# Altium schematic symbol library Connectors.SchLib: 80 symbols
Pins are listed as number, name and electrical type; pins without a type are passive.

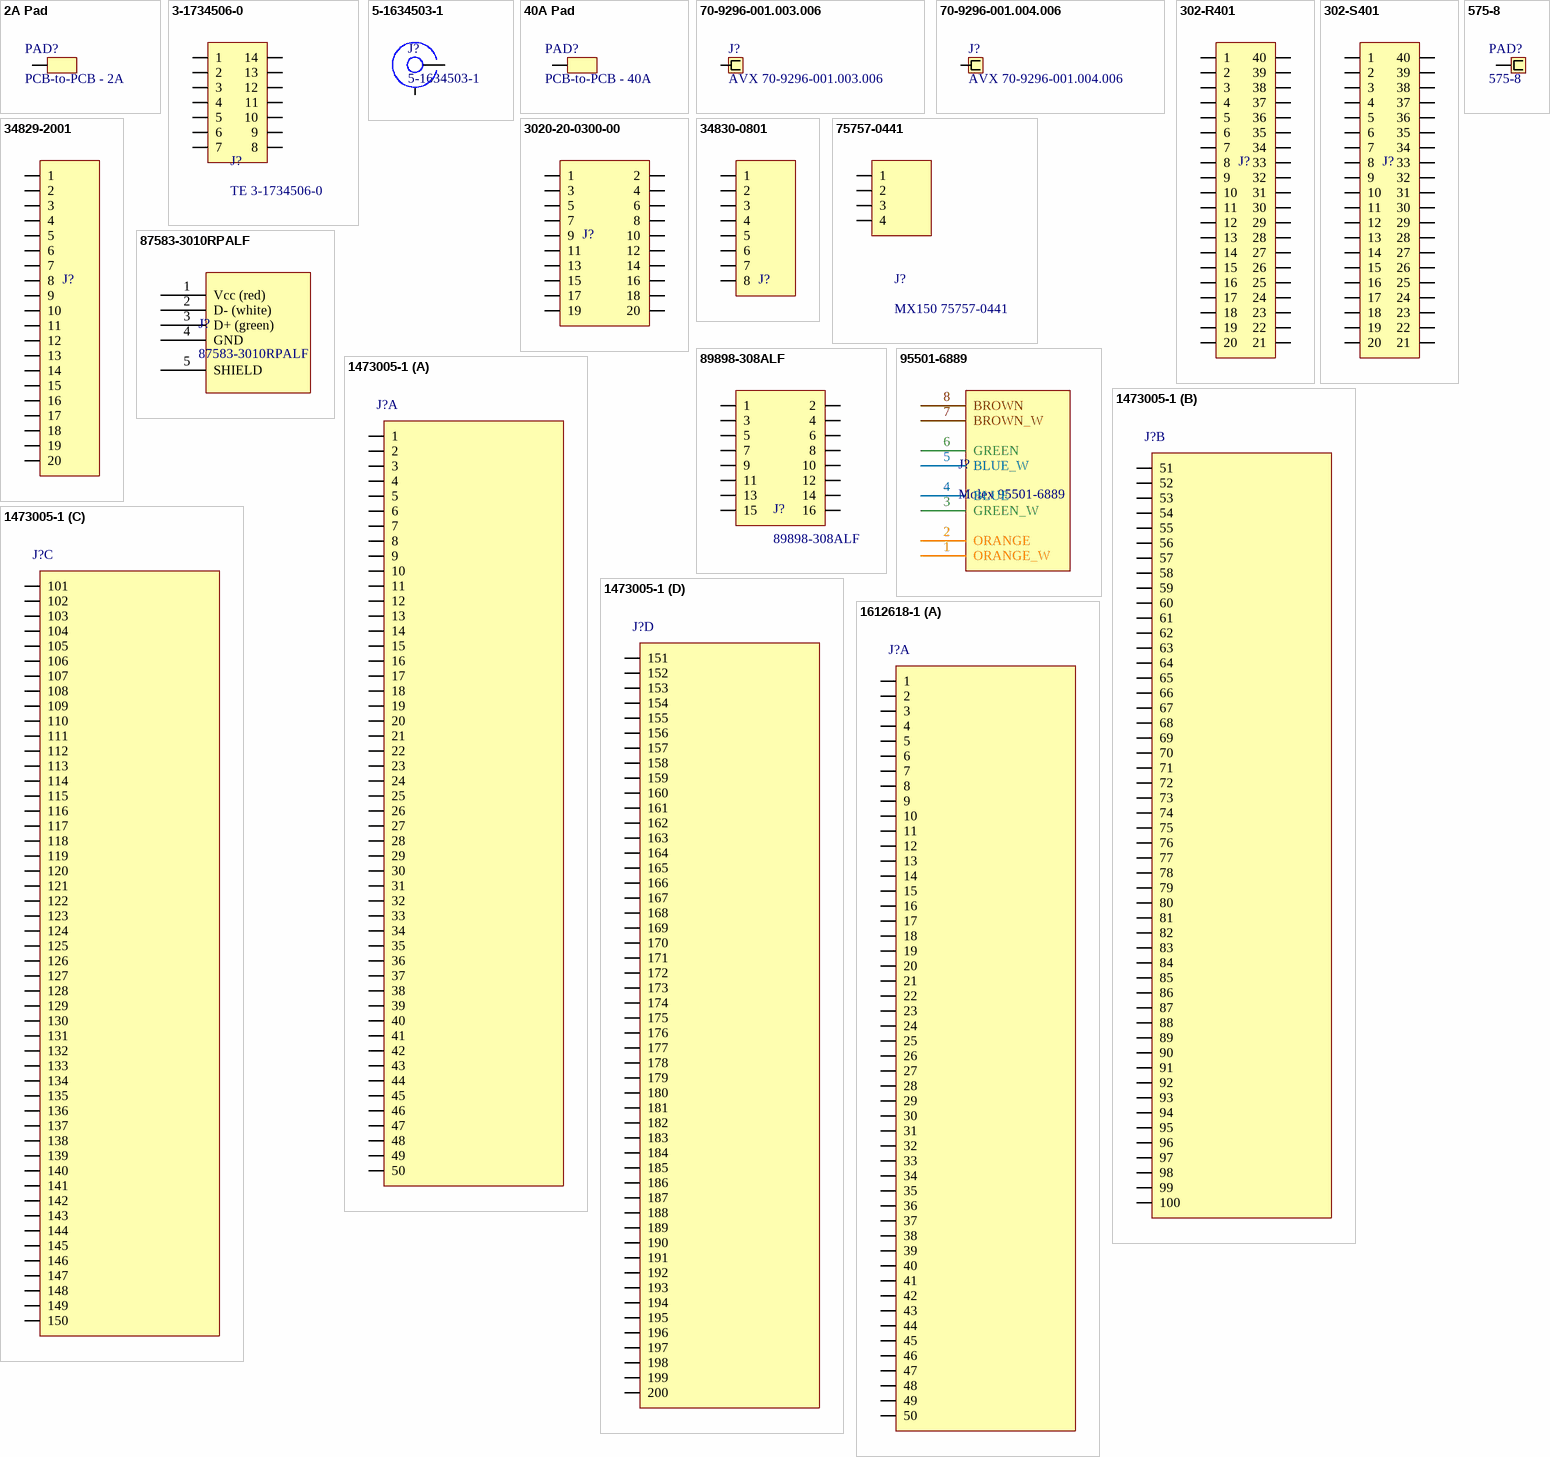
[diagram p0: symbols 2A Pad to 1612618-1]

## 2A Pad
designator PAD?, comment PCB-to-PCB - 2A  (no BOM)
Bare pad for soldering two PCBs together. Sized for 2A.
footprint 2A Pad (Spring Contact Land)
pins: 1

## 3-1734506-0
designator J?, comment TE 3-1734506-0
14-pin (2x7) FEMALE 2mm pitch header; Supplier 1: Digi-Key; Supplier Part Number 1: A108125-ND
footprint TE 3-1734506-0 (14-pin female header, 2mm pitch)
pins: 1, 2, 3, 4, 5, 6, 7, 8, 9, 10, 11, 12, 13, 14

## 5-1634503-1
designator J?
BNC Connector Jack, Female Socket 50 Ohm; Supplier 1: Digi-Key; Supplier Part Number 1: A97581-ND
footprint 1634503 (BNC Straight -- low profile PCB Socket)
pins: 1 +, 2 -

## 40A Pad
designator PAD?, comment PCB-to-PCB - 40A  (no BOM)
Bare pad for soldering two PCBs together. Sized for 40A.
footprint 40A Pad (Spring Contact Land)
pins: 1

## 70-9296-001.003.006
designator J?, comment AVX 70-9296-001.003.006
18-26 AWG Poke-In Connector, SMT Right Angle, 12A/300V; Supplier 1: Arrow; Supplier Part Number 1: 4UqPmsK6ymT0yHi-ZWwqiyie42LY-fYd7lKV5dq7NIE; Supplier 2: Digi-Key; Supplier Part Number 2: 478-8744-1-ND
footprint 70-9296-001.003.006
pins: 1

## 70-9296-001.004.006
designator J?, comment AVX 70-9296-001.004.006
12-20 AWG Poke-In Connector, SMT Right Angle, 20A/300V; Supplier Part Number 1: 7-I2iwPeJgIE7biQH_x3lbg6mfNoXfaR7hMX_bwNfOM; Supplier 2: Digi-Key; Supplier Part Number 2: 478-8665-1-ND; Supplier 1: Arrow
footprint 70-9296-001.004.006
pins: 1

## 302-R401
designator J?  (value not drawn)
40-pin (2x20) male 0.100" header, right angle; Supplier 1: Digi-Key; Supplier Part Number 1: ED10541-ND
footprint 302-R401
pins: 1, 2, 3, 4, 5, 6, 7, 8, 9, 10, 11, 12, 13, 14, 15, 16, 17, 18, 19, 20, 21, 22, 23, 24, 25, 26, 27, 28, 29, 30, 31, 32, 33, 34, 35, 36, 37, 38, 39, 40

## 302-S401
designator J?  (value not drawn)
40-pin (2x20) male 0.100" header
footprint 302-S401
pins: 1, 2, 3, 4, 5, 6, 7, 8, 9, 10, 11, 12, 13, 14, 15, 16, 17, 18, 19, 20, 21, 22, 23, 24, 25, 26, 27, 28, 29, 30, 31, 32, 33, 34, 35, 36, 37, 38, 39, 40

## 575-8
designator PAD?
15A Female banana jack, 4mm; Supplier 1: Digi-Key; Supplier Part Number 1: 36-575-8-ND
footprint 575-8
pins: 1

## 3020-20-0300-00
designator J?  (value not drawn)
20 Positions Header Connector 0.100" (2.54mm) Surface Mount Gold; Supplier 1: Digi-Key; Supplier Part Number 1: 1175-1623-ND
footprint 3020-20-0300-00 (20 Positions Header Connector 0.100" (2.54mm) Surface Mount Gold)
pins: 1, 2, 3, 4, 5, 6, 7, 8, 9, 10, 11, 12, 13, 14, 15, 16, 17, 18, 19, 20

## 34829-2001
designator J?  (value not drawn)
20-pin (2x10) press-fit MX150 connector, polarization A (black); Supplier 1: Mouser; Supplier Part Number 1: 538-34829-2001; Supplier 2: Newark; Supplier Part Number 2: 20X4410; Supplier 3: Digi-Key; Supplier Part Number 3: 0348292001-ND
footprint 34829-2001 (MX150™ 2x10 Dual Row Right Angle Header, Compliant Pin, 20 Circuits, Polarization A, Black)
pins: 1, 2, 3, 4, 5, 6, 7, 8, 9, 10, 11, 12, 13, 14, 15, 16, 17, 18, 19, 20

## 34830-0801
designator J?  (value not drawn)
8-pin (2x4) solder-tail MX150 connector, polarization A (black); Supplier 1: Digi-Key; Supplier Part Number 1: WM14555-ND
footprint 34830-0801 (MX150™ 2x4 Dual Row Right Angle Header, Solder Pin, 8 Circuits, Polarization A, Black)
pins: 1, 2, 3, 4, 5, 6, 7, 8

## 75757-0441
designator J?, comment MX150 75757-0441
MX150 Connector Header Through Hole 4 position 0.138" (3.50mm); Supplier 1: Digi-Key; Supplier Part Number 1: WM12840-ND
footprint 75757-0441 (MX150 Connector Header Through Hole 4 position 0.138" (3.50mm))
pins: 1, 2, 3, 4

## 87583-3010RPALF
designator J?
USB - A USB 2.0 Receptacle Connector 4 Position Surface Mount, Right Angle
footprint 87583-3010RPALF
pins: 1 Vcc (red), 2 D- (white), 3 D+ (green), 4 GND, 5 SHIELD

## 89898-308ALF
designator J?
16-pin (2x8) FEMALE 2.54mm pitch header; Supplier 1: Digi-Key; Supplier 2: Mouser; Supplier Part Number 1: 609-5158-1-ND; Supplier Part Number 2: 649-89898-308ALF
footprint 89898-308ALF (16 Position Receptacle, Bottom or Top Entry Connector Surface Mount)
pins: 1, 2, 3, 4, 5, 6, 7, 8, 9, 10, 11, 12, 13, 14, 15, 16

## 95501-6889
designator J?, comment Molex 95501-6889
Jack Modular Connector 8p8c (RJ45, Ethernet) 90° Angle (Right) Unshielded Cat3; Supplier 1: Digi-Key; Supplier 2: Mouser; Supplier Part Number 1: WM5576-ND; Supplier Part Number 2: 538-95501-6889
footprint Molex 95501-6889
pins: 1 ORANGE_W, 2 ORANGE, 3 GREEN_W, 4 BLUE, 5 BLUE_W, 6 GREEN, 7 BROWN_W, 8 BROWN

## 1473005-1
designator J?, comment TE 1473005-1  (value not drawn)
SODIMM DDR2 200-pin standard, 5.2mm high; Supplier 1: Mouser; Supplier Part Number 1: 571-1473005-1; Supplier 2: Digi-Key; Supplier Part Number 2: A99605-ND
footprint TE 1473005-1
part A pins: 1, 2, 3, 4, 5, 6, 7, 8, 9, 10, 11, 12, 13, 14, 15, 16, 17, 18, 19, 20, 21, 22, 23, 24, 25, 26, 27, 28, 29, 30, 31, 32, 33, 34, 35, 36, 37, 38, 39, 40, 41, 42, 43, 44, 45, 46, 47, 48, 49, 50
part B pins: 51, 52, 53, 54, 55, 56, 57, 58, 59, 60, 61, 62, 63, 64, 65, 66, 67, 68, 69, 70, 71, 72, 73, 74, 75, 76, 77, 78, 79, 80, 81, 82, 83, 84, 85, 86, 87, 88, 89, 90, 91, 92, 93, 94, 95, 96, 97, 98, 99, 100
part C pins: 101, 102, 103, 104, 105, 106, 107, 108, 109, 110, 111, 112, 113, 114, 115, 116, 117, 118, 119, 120, 121, 122, 123, 124, 125, 126, 127, 128, 129, 130, 131, 132, 133, 134, 135, 136, 137, 138, 139, 140, 141, 142, 143, 144, 145, 146, 147, 148, 149, 150
part D pins: 151, 152, 153, 154, 155, 156, 157, 158, 159, 160, 161, 162, 163, 164, 165, 166, 167, 168, 169, 170, 171, 172, 173, 174, 175, 176, 177, 178, 179, 180, 181, 182, 183, 184, 185, 186, 187, 188, 189, 190, 191, 192, 193, 194, 195, 196, 197, 198, 199, 200

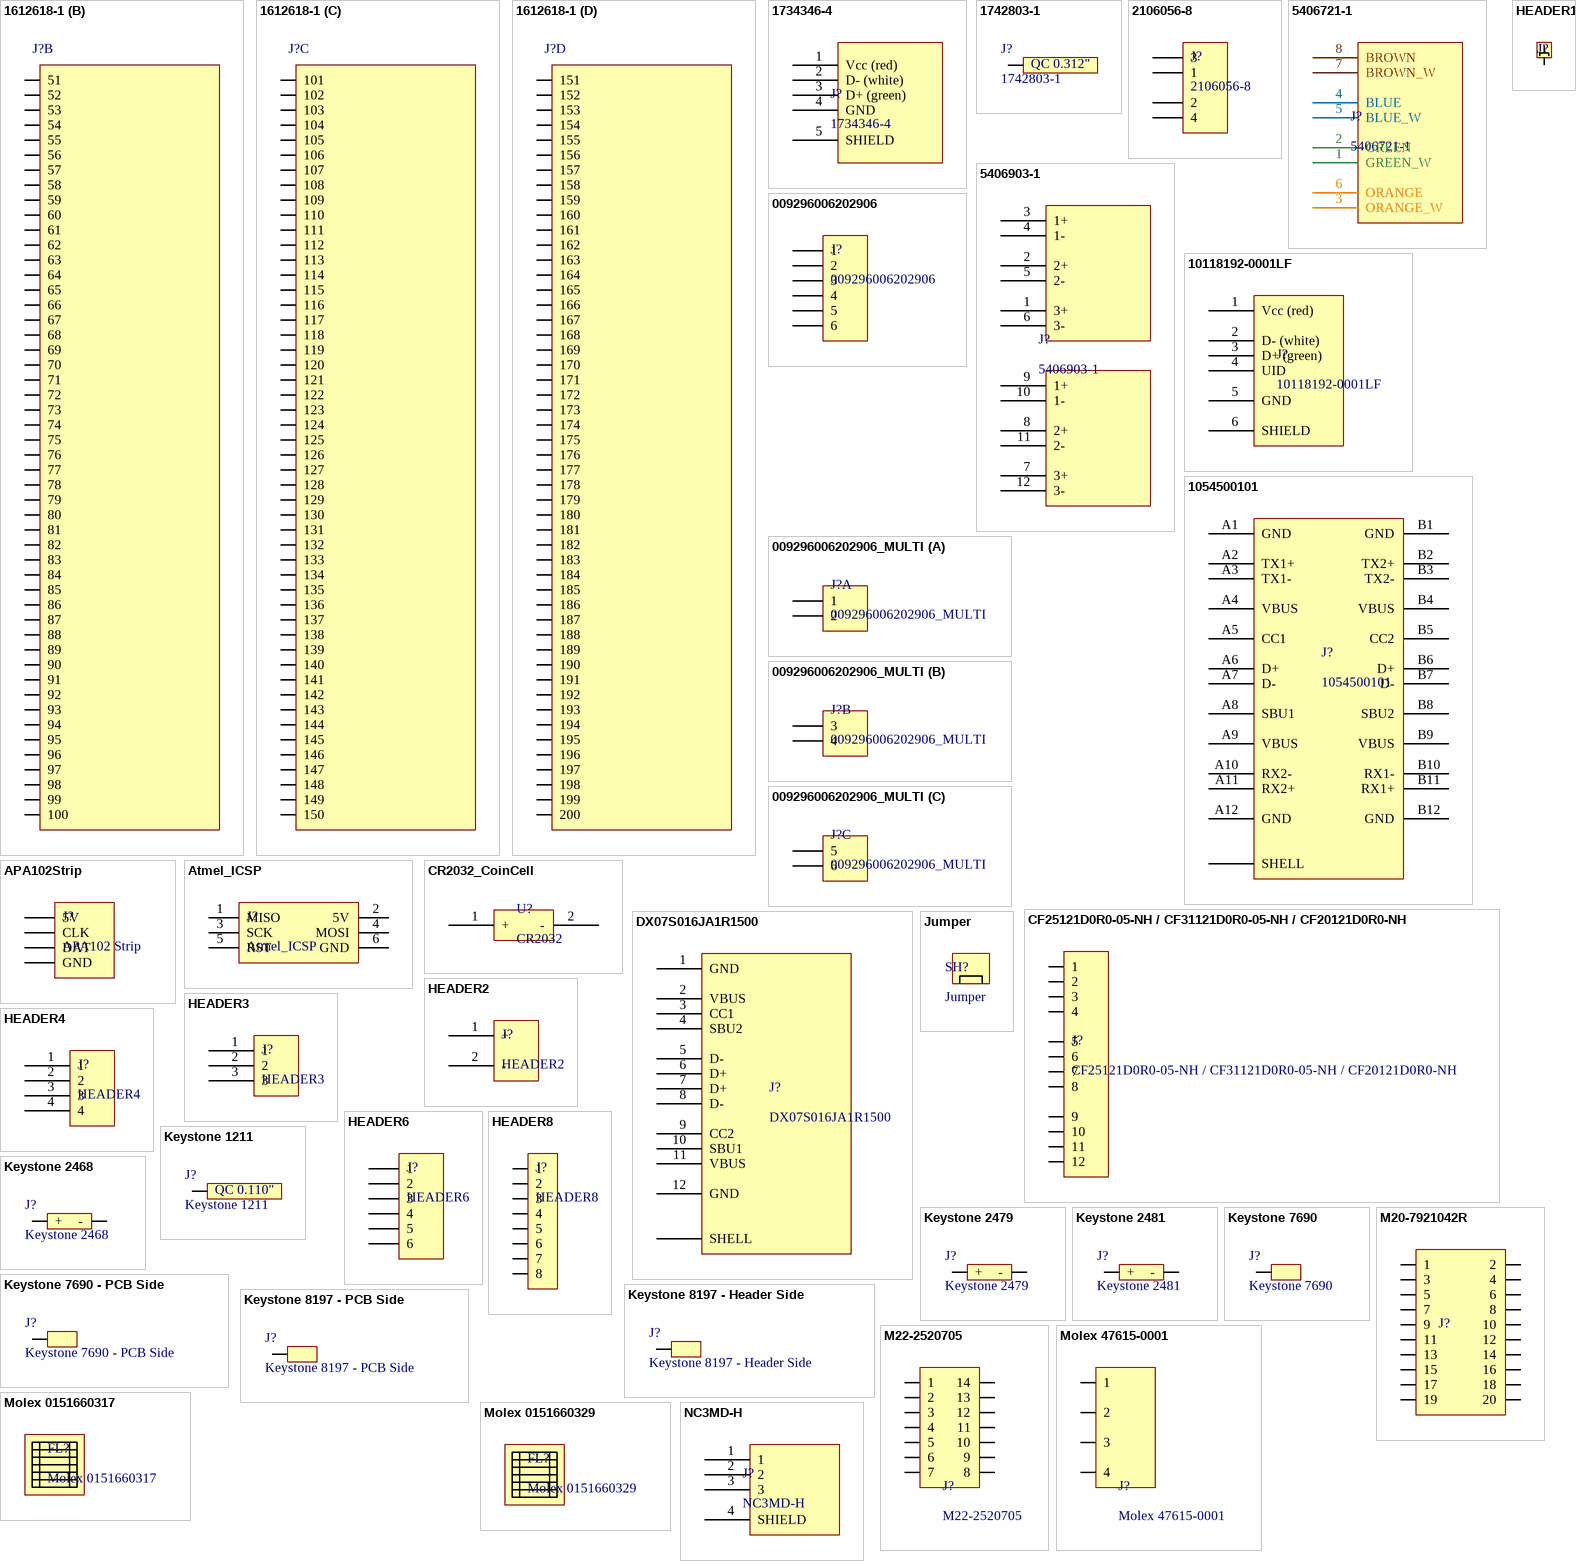
[diagram p1: symbols 1612618-1 to NC3MD-H]

## 1612618-1
designator J?, comment TE 1612618-1  (value not drawn)
SODIMM DDR2 200-pin standard, 9.2mm high; Supplier 1: Mouser; Supplier Part Number 1: 571-1612618-1; Supplier 2: Digi-Key; Supplier Part Number 2: A121569-ND
footprint TE 1612618-1
part A pins: 1, 2, 3, 4, 5, 6, 7, 8, 9, 10, 11, 12, 13, 14, 15, 16, 17, 18, 19, 20, 21, 22, 23, 24, 25, 26, 27, 28, 29, 30, 31, 32, 33, 34, 35, 36, 37, 38, 39, 40, 41, 42, 43, 44, 45, 46, 47, 48, 49, 50
part B pins: 51, 52, 53, 54, 55, 56, 57, 58, 59, 60, 61, 62, 63, 64, 65, 66, 67, 68, 69, 70, 71, 72, 73, 74, 75, 76, 77, 78, 79, 80, 81, 82, 83, 84, 85, 86, 87, 88, 89, 90, 91, 92, 93, 94, 95, 96, 97, 98, 99, 100
part C pins: 101, 102, 103, 104, 105, 106, 107, 108, 109, 110, 111, 112, 113, 114, 115, 116, 117, 118, 119, 120, 121, 122, 123, 124, 125, 126, 127, 128, 129, 130, 131, 132, 133, 134, 135, 136, 137, 138, 139, 140, 141, 142, 143, 144, 145, 146, 147, 148, 149, 150
part D pins: 151, 152, 153, 154, 155, 156, 157, 158, 159, 160, 161, 162, 163, 164, 165, 166, 167, 168, 169, 170, 171, 172, 173, 174, 175, 176, 177, 178, 179, 180, 181, 182, 183, 184, 185, 186, 187, 188, 189, 190, 191, 192, 193, 194, 195, 196, 197, 198, 199, 200

## 1734346-4
designator J?
USB - B USB 2.0 Receptacle Connector 4 Position Surface Mount, Right Angle; Supplier 1: Digi-Key; Supplier 2: Mouser; Supplier 3: Arrow; Supplier Part Number 1: A114945-ND; Supplier Part Number 2: 571-1734346-1; Supplier Part Number 3: 1734346-1
footprint 1734346-4
pins: 1 Vcc (red), 2 D- (white), 3 D+ (green), 4 GND, 5 SHIELD

## 1742803-1
designator J?
312 FAST PCB TAB 032TPBR
footprint 1742803-1 (QC, laying flat)
pins: 1
text: QC 0.312"

## 2106056-8
designator J?
TE 4-pin SlimSeal Sealed Connector Header, right angle SMT; Supplier 1: Digi-Key; Supplier Part Number 1: A101040CT-ND
footprint 2106056-8 (SlimSeal 4-pin right angle header, SMT)
pins: 1, 2, 3, 4

## 5406721-1
designator J?
CONN JACK 8P8C R/A UNSHLD
footprint 5406721-1
pins: 1 GREEN_W, 2 GREEN, 3 ORANGE_W, 4 BLUE, 5 BLUE_W, 6 ORANGE, 7 BROWN_W, 8 BROWN

## 5406903-1
designator J?
CONN JACK 2x 6P6C R/A UNSHLD
footprint 5406903-1
pins: 1 3+, 2 2+, 3 1+, 4 1-, 5 2-, 6 3-, 7 3+, 8 2+, 9 1+, 10 1-, 11 2-, 12 3-

## 10118192-0001LF
designator J?
CONN RCPT USB2.0 MICRO B SMD R/A
footprint 10118192-0001LF
pins: 1 Vcc (red), 2 D- (white), 3 D+ (green), 4 UID, 5 GND, 6 SHIELD

## 1054500101
designator J?
USB - C (Type - C) USB 3.1 (USB 3.1 Gen 2, Superspeed+) Receptacle Connector 24 Position Surface Mount, Right Angle; Through Hole; Supplier 1: Digi-Key; Supplier 2: Arrow; Supplier Part Number 2: 105450-0101; Supplier Part Number 1: WM12856CT-ND
footprint 1054500101 (CONN RCP USB3.1 TYPEC 24P SMD RA)
pins: A1 GND, A2 TX1+, A3 TX1-, A4 VBUS, A5 CC1, A6 D+, A7 D-, A8 SBU1, A9 VBUS, A10 RX2-, A11 RX2+, A12 GND, B1 GND, B2 TX2+, B3 TX2-, B4 VBUS, B5 CC2, B6 D+, B7 D-, B8 SBU2, B9 VBUS, B10 RX1-, B11 RX1+, B12 GND, SHELL

## 009296006202906
designator J?
AVX 6-pin poke-in header; Supplier 1: Mouser; Supplier Part Number 1: 581-009296006202906; Supplier 2: Digi-Key; Supplier Part Number 2: 478-9537-1-ND
footprint 009296006202906
pins: 1, 2, 3, 4, 5, 6

## 009296006202906_MULTI
designator J?
AVX 6-pin poke-in header, split into 3 blocks of 2.; Supplier 1: Mouser; Supplier Part Number 1: 581-009296006202906; Supplier 2: Digi-Key; Supplier Part Number 2: 478-9537-1-ND
footprint 009296006202906
part A pins: 1, 2
part B pins: 3, 4
part C pins: 5, 6

## APA102Strip
designator J?, comment APA102 Strip
APA102 strip mount, standard header, strip and wire compatible.; Supplier 1: Digi-Key; Supplier Part Number 1: S1011EC-06-ND; Supplier 2: Mouser; Supplier Part Number 2: 855-M20-9730645; Supplier 3: Digi-Key; Supplier Part Number 3: 952-1984-ND
footprint APA102Strip
pins: 1 5V, 2 CLK, 3 DAT, 4 GND

## Atmel_ICSP
designator J?
6-pin 0.100" ICSP header; Supplier 1: Digi-Key; Supplier Part Number 1: S2012EC-03-ND
footprint 6x2
pins: 1 MISO, 2 5V, 3 SCK, 4 MOSI, 5 RST, 6 GND

## CF25121D0R0-05-NH / CF31121D0R0-05-NH / CF20121D0R0-NH
designator J?
12 Position FFC, FPC Connector Contacts, Bottom 0.020" (0.50mm) Surface Mount, Right Angle / Multi-part footprint
footprint CF25121D0R0-05-NH / CF31121D0R0-05-NH / CF20121D0R0-NH
pins: 1, 2, 3, 4, 5, 6, 7, 8, 9, 10, 11, 12

## CR2032_CoinCell
designator U?, comment CR2032
CR2032 Battery holder; Supplier 1: Digi-Key; Supplier Part Number 1: BU2032SM-BT-GCT-ND
footprint CR2032_CoinCell
pins: 1 +, 2 -

## DX07S016JA1R1500
designator J?
USB-C (USB TYPE-C) USB 2.0 Receptacle Connector 24 (16+8 Dummy) Position Surface Mount, Right Angle; Through Hole; Supplier 1: Digi-Key; Supplier 2: Mouser; Supplier Part Number 1: 670-DX07S016JA1R1500CT-ND; Supplier Part Number 2: 656-DX07S016JA1R1500
footprint DX07S016JA1R1500 (USB-C (USB TYPE-C) USB 2.0 Receptacle Connector 24 (16+8 Dummy) Position Surface Mount, Right Angle; Through Hole)
pins: 1 GND, 2 VBUS, 3 CC1, 4 SBU2, 5 D-, 6 D+, 7 D+, 8 D-, 9 CC2, 10 SBU1, 11 VBUS, 12 GND, SHELL

## HEADER1
designator J?  (value not drawn)
1-pin 0.100" header; Supplier 1: Digi-Key; Supplier Part Number 1: 609-3466-ND
footprint 1x1
pins: 1

## HEADER2
designator J?
2-pin 0.100" header; Supplier 1: Mouser; Supplier Part Number 1: 855-M20-9990245; Supplier 2: Digi-Key; Supplier Part Number 2: 952-2261-ND
footprint 2x1
pins: 1 +, 2 -

## HEADER3
designator J?
3-pin 0.100" header
footprint 3x1
pins: 1, 2, 3

## HEADER4
designator J?
4-pin 0.100" header
footprint 4x1
pins: 1, 2, 3, 4

## HEADER6
designator J?
6-pin 0.100" header; Supplier 1: Digi-Key; Supplier Part Number 1: S1011EC-06-ND; Supplier 2: Mouser; Supplier Part Number 2: 855-M20-9730645; Supplier 3: Digi-Key; Supplier Part Number 3: 952-1984-ND
footprint 6x1
pins: 1, 2, 3, 4, 5, 6

## HEADER8
designator J?
8-pin 0.100" header; Supplier 1: Digi-Key; Supplier Part Number 1: S1011EC-06-ND; Supplier 2: Mouser; Supplier Part Number 2: 855-M20-9730645; Supplier 3: Digi-Key; Supplier Part Number 3: 952-1984-ND
footprint 8x1
pins: 1, 2, 3, 4, 5, 6, 7, 8

## Jumper
designator SH?  (mechanical)
2-pin 0.100" jumper (short); Supplier 1: Digi-Key; Supplier Part Number 1: S9337-ND

## Keystone 1211
designator J?
110 FAST PCB TAB
footprint Keystone 1211 (0.110" QC, laying flat)
pins: 1
text: QC 0.110"

## Keystone 2468
designator J?
2-AAA Battery Holder; Supplier 1: Digi-Key; Supplier Part Number 1: 36-2468-ND
footprint Keystone 2468
pins: 1 +, 2 -

## Keystone 2479
designator J?
3-AAA Battery Holder; Supplier 1: Digi-Key; Supplier Part Number 1: 36-2479-ND
footprint Keystone 2479
pins: 1 +, 2 -

## Keystone 2481
designator J?
4-AAA Battery Holder; Supplier 1: Digi-Key; Supplier Part Number 1: 36-2481-ND
footprint Keystone 2481
pins: 1 +, 2 -

## Keystone 7690
designator J?
15A Right-Angle Screw Terminal, 6-32 mounting screw; Supplier 1: Digi-Key; Supplier Part Number 1: 36-7690-ND; Supplier 2: Mouser; Supplier Part Number 2: 534-7690
footprint Keystone 7690 (15A Right Angle Screw Terminal)
pins: 1

## Keystone 7690 - PCB Side
designator J?  (no BOM)
15A Screw Terminal PCB Mount. Mates with 7690 terminal.
footprint Keystone 7690 - Terminal Side (15A Screw Terminal)
pins: 1

## Keystone 8197 - Header Side
designator J?
30A Screw Terminal, 0.250" height, #6-32 mounting screw; Supplier 1: Digi-Key; Supplier Part Number 1: 36-8197-ND; Supplier 2: Mouser; Supplier Part Number 2: 534-8197
footprint Keystone 8197 - PCB Side (30A Screw Terminal)
pins: 1

## Keystone 8197 - PCB Side
designator J?  (no BOM)
30A Screw Terminal PCB Mount. Mates with 8197 terminal to make a 2-PCB stack.
footprint Keystone 8197 - Terminal Side (30A Screw Terminal)
pins: 1

## M20-7921042R
designator J?  (value not drawn)
20 Position Receptacle Connector 0.100" (2.54mm) Surface Mount, Right Angle Gold; Supplier 1: Digi-Key; Supplier Part Number 1: 952-3180-1-ND
footprint M20-7921042R (20 Position Receptacle Connector 0.100" (2.54mm) Surface Mount, Right Angle Gold)
pins: 1, 2, 3, 4, 5, 6, 7, 8, 9, 10, 11, 12, 13, 14, 15, 16, 17, 18, 19, 20

## M22-2520705
designator J?
14-pin (2x7) MALE 2mm pitch header; Supplier 1: Mouser; Supplier Part Number 1: 855-M22-2520705; Supplier 2: Digi-Key; Supplier Part Number 2: 952-1989-ND
footprint M22-2520705 (14-pin male header, 2mm pitch)
pins: 1, 2, 3, 4, 5, 6, 7, 8, 9, 10, 11, 12, 13, 14

## Molex 47615-0001
designator J?
4 Position Spring Battery Contact Connector Surface Mount, Right Angle
footprint Molex 47615-0001 (4 Position Spring Battery Contact Connector Surface Mount, Right Angle)
pins: 1, 2, 3, 4

## Molex 0151660317
designator FL?  (mechanical)
Flat Flex Cable, 30-conductor, 0.5mm pitch, 2" long; Supplier 1: Digi-Key; Supplier Part Number 1: WM11310-ND

## Molex 0151660329
designator FL?  (mechanical)
Flat Flex Cable, 30-conductor, 0.5mm pitch, 8" long; Supplier 1: Digi-Key; Supplier Part Number 1: WM11369-ND

## NC3MD-H
designator J?
XLR, 3-Pole Male Panel Header, Horizontal PCB mount.
footprint NC3MD-H
pins: 1, 2, 3, 4 SHIELD

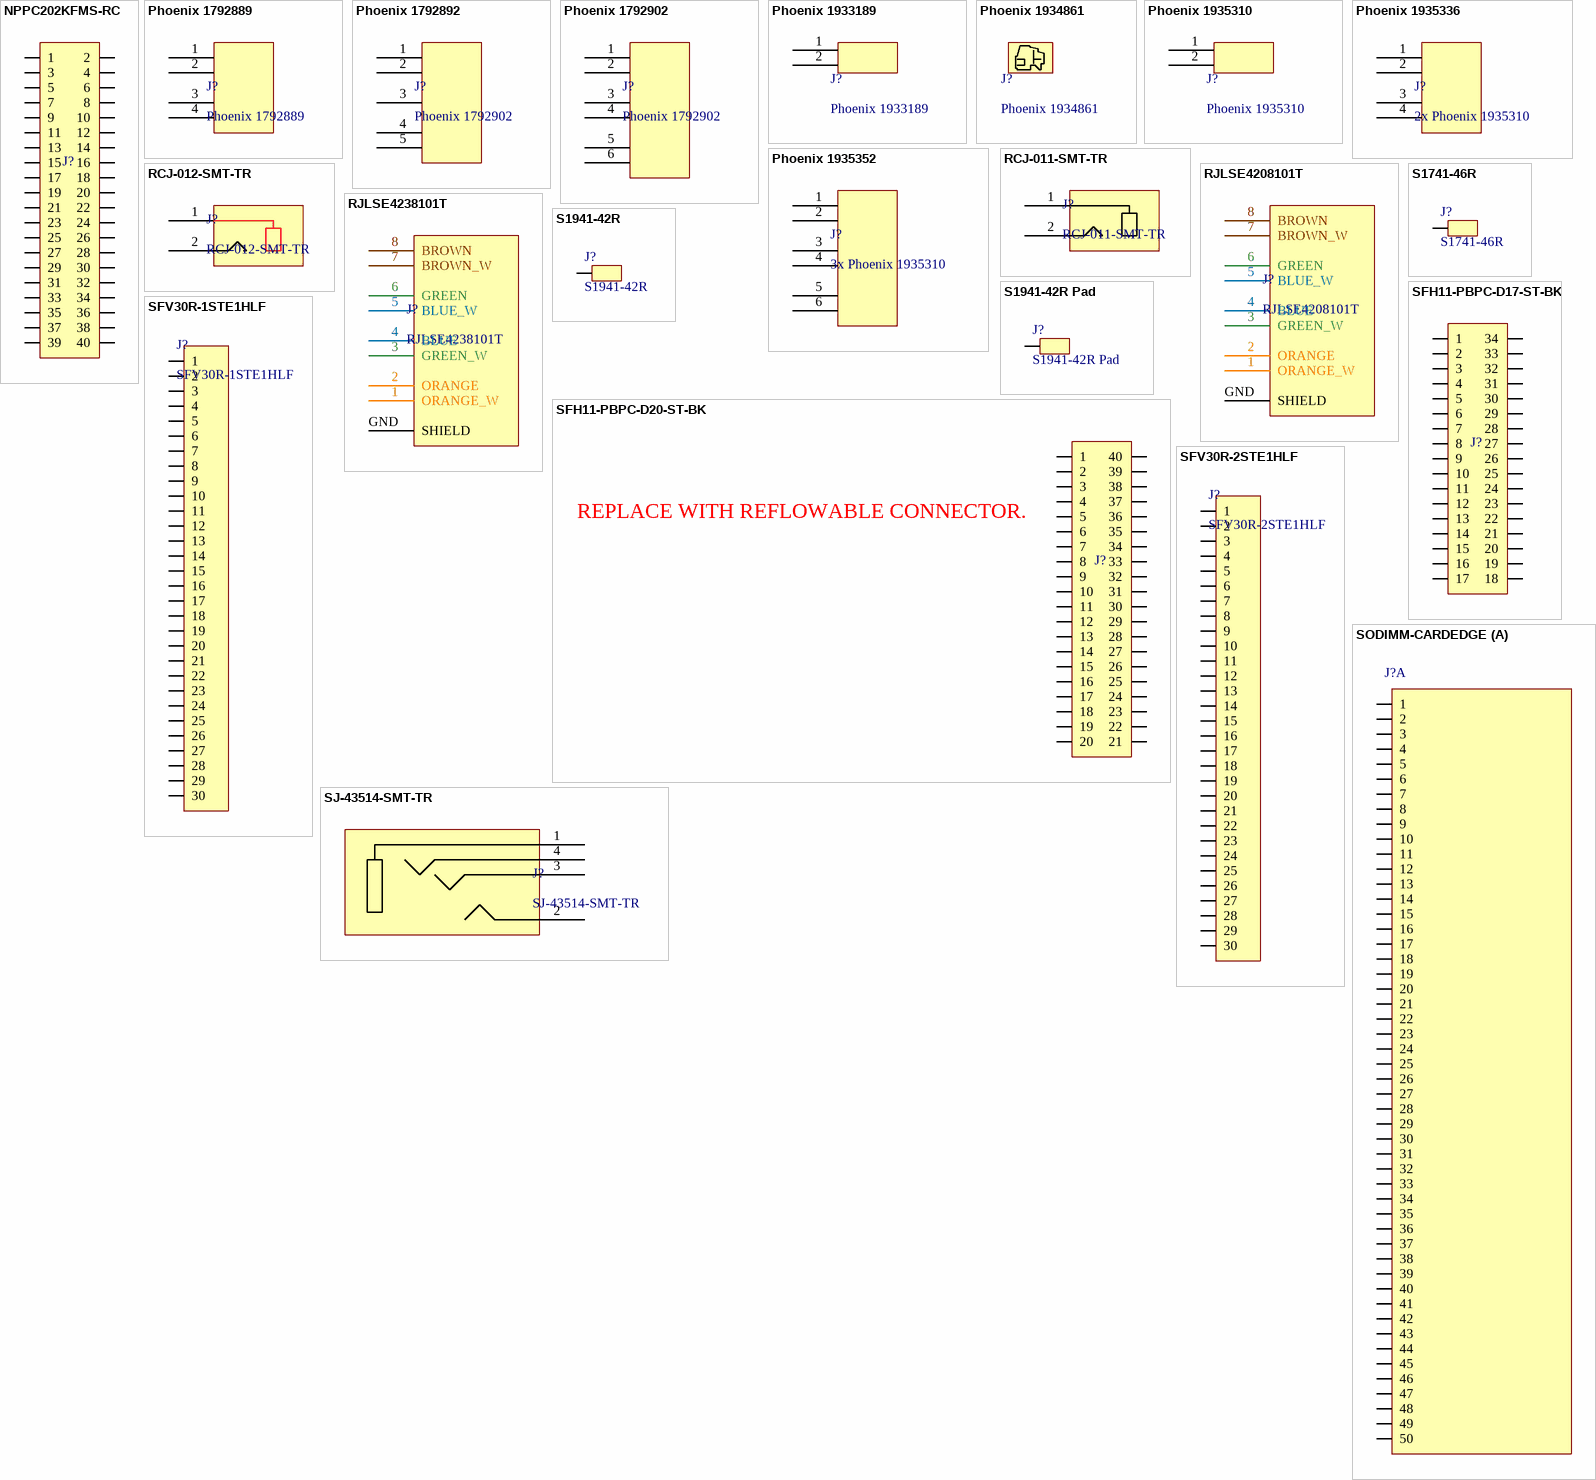
[diagram p2: symbols NPPC202KFMS-RC to SODIMM-CARDEDGE]

## NPPC202KFMS-RC
designator J?  (value not drawn)
40 Position Header Connector 0.100" (2.54mm) Surface Mount Gold; Supplier 1: Digi-Key; Supplier Part Number 1: S5729-ND; Supplier 2: Digi-Key; Supplier Part Number 2: 952-3218-ND
footprint NPPC202KFMS-RC
pins: 1, 2, 3, 4, 5, 6, 7, 8, 9, 10, 11, 12, 13, 14, 15, 16, 17, 18, 19, 20, 21, 22, 23, 24, 25, 26, 27, 28, 29, 30, 31, 32, 33, 34, 35, 36, 37, 38, 39, 40

## Phoenix 1792889
designator J?
4-pos 12A terminal block, 12-26AWG
footprint TERMINAL BLOCK - Phoenix 1792889
pins: 1, 2, 3, 4

## Phoenix 1792892
designator J?, comment Phoenix 1792902
5-pos 12A terminal block, 12-26AWG
footprint Terminal Block - Phoenix 1792892
pins: 1, 2, 3, 4, 5

## Phoenix 1792902
designator J?
6-pos 12A terminal block, 12-26AWG
footprint Terminal Block - Phoenix 1792902
pins: 1, 2, 3, 4, 5, 6

## Phoenix 1933189
designator J?
2-pos 5mm Pitch 12A Terminal Block Pin Header; Supplier 1: Mouser; Supplier Part Number 1: 651-1933189; Supplier 2: Digi-Key; Supplier Part Number 2: 277-1645-ND
footprint Phoenix 1933189 - Header
pins: 1, 2

## Phoenix 1934861
designator J?  (mechanical)
2-pos 5mm Pitch 12A Terminal Block; Supplier 1: Digi-Key; Supplier Part Number 1: 277-1607-ND; Supplier 2: Mouser; Supplier Part Number 2: 651-1934861; Supplier 3: Arrow; Supplier Part Number 3: 0TlfmtJgdkZ8kYMiTp2ka8hvNgdOp-dXpmJ9T4cCfS8

## Phoenix 1935310
designator J?
2-pos Vertical 18A terminal block, 12-26AWG; Supplier 1: Digi-Key; Supplier Part Number 1: 277-1592-ND; Supplier 2: Mouser; Supplier Part Number 2: 651-1935310
footprint TERMINAL BLOCK - Phoenix 1935310
pins: 1, 2

## Phoenix 1935336
designator J?, comment 2x Phoenix 1935310
4-pos Vertical 18A terminal block, 12-26AWG; Supplier 1: Digi-Key; Supplier Part Number 1: 277-1592-ND; Supplier 2: Mouser; Supplier Part Number 2: 651-1935310
footprint TERMINAL BLOCK - Phoenix 1935336
pins: 1, 2, 3, 4

## Phoenix 1935352
designator J?, comment 3x Phoenix 1935310
6-pos Vertical 18A terminal block, 12-26AWG; Supplier 1: Digi-Key; Supplier Part Number 1: 277-1592-ND; Supplier 2: Mouser; Supplier Part Number 2: 651-1935310
footprint Terminal Block - Phoenix 1935352
footprint Terminal Block - Phoenix 1935352 - sparkgap
pins: 1, 2, 3, 4, 5, 6

## RCJ-011-SMT-TR
designator J?
SMD RCA Socket, Black; Supplier 1: Arrow; Supplier Part Number 1: rElkED4JehzkPkmfoHxM62pTao35X2new1xrX4G8gIg; Supplier 2: Digi-Key; Supplier Part Number 2: CP-1459-1-ND
footprint RCJ-011-SMT-TR
pins: 1 RING, 2 TIP

## RCJ-012-SMT-TR
designator J?
SMD RCA Socket, Red; Supplier 1: Arrow; Supplier Part Number 1: ApqFMT8aXnpuqaMFmnYxWkqv5hhDmaKUwU-ncLVszGc; Supplier 2: Digi-Key; Supplier Part Number 2: CP-1460-1-ND
footprint RCJ-011-SMT-TR
pins: 1 RING, 2 TIP

## RJLSE4208101T
designator J?
RJ-45 Ethernet Connector, no shield.; Supplier 1: Mouser; Supplier Part Number 1: 523-RJLSE-42081-01T; Supplier 2: Digi-Key; Supplier Part Number 2: RJLSE4208101TCT-ND
footprint RJLSE4208101T
pins: 1 ORANGE_W, 2 ORANGE, 3 GREEN_W, 4 BLUE, 5 BLUE_W, 6 GREEN, 7 BROWN_W, 8 BROWN, GND SHIELD

## RJLSE4238101T
designator J?
RJ-45 Ethernet Connector, with shield.; Supplier 1: Mouser; Supplier Part Number 1: 523-RJLSE-42381-01T; Supplier 2: Digi-Key; Supplier Part Number 2: RJLSE4238101TCT-ND
footprint RJLSE4238101T
pins: 1 ORANGE_W, 2 ORANGE, 3 GREEN_W, 4 BLUE, 5 BLUE_W, 6 GREEN, 7 BROWN_W, 8 BROWN, GND SHIELD

## S1741-46R
designator J?
6A Spring Contact, 3.5mm x 6mm; Supplier 1: Digi-Key; Supplier Part Number 1: 952-1477-1-ND; Supplier 2: Mouser; Supplier Part Number 2: 855-S1741-46R
footprint S1741-46R (Spring Contact Land)
pins: 1

## S1941-42R
designator J?
Horizontal Spring Contact, 10 x 10mm; Supplier 1: Digi-Key; Supplier 2: Mouser; Supplier Part Number 1: 952-3245-1-ND; Supplier Part Number 2: 855-S1941-42R
footprint S1941-42R (Spring Contact Land)
pins: 1

## S1941-42R Pad
designator J?
Horizontal Spring Contact Mating Pad
footprint S1941-42R Pad (Spring Contact Land)
pins: 1

## SFH11-PBPC-D17-ST-BK
designator J?  (value not drawn)
34-pin (2x17) female 0.100" header
footprint SBH11-PBPC-D17-ST-BK
pins: 1, 2, 3, 4, 5, 6, 7, 8, 9, 10, 11, 12, 13, 14, 15, 16, 17, 18, 19, 20, 21, 22, 23, 24, 25, 26, 27, 28, 29, 30, 31, 32, 33, 34

## SFH11-PBPC-D20-ST-BK
designator J?  (value not drawn)
40-pin (2x20) female 0.100" header; Supplier 1: Digi-Key; Supplier Part Number 1: S9200-ND; Supplier 2: Digi-Key; Supplier Part Number 2: S7123-ND
footprint SFH11-PBPC-D20-ST-BK
pins: 1, 2, 3, 4, 5, 6, 7, 8, 9, 10, 11, 12, 13, 14, 15, 16, 17, 18, 19, 20, 21, 22, 23, 24, 25, 26, 27, 28, 29, 30, 31, 32, 33, 34, 35, 36, 37, 38, 39, 40
text: REPLACE WITH REFLOWABLE CONNECTOR.

## SFV30R-1STE1HLF
designator J?
30-pin FFC header (contacts on bottom); Supplier 1: Arrow; Supplier Part Number 1: Yn8S3xmAF769ee12jPJbOpwHJMV_uSgC0g6-ZyfkXCo; Supplier 2: Digi-Key; Supplier Part Number 2: 609-4326-1-ND
footprint SFV30R-1STE1HLF
pins: 1, 2, 3, 4, 5, 6, 7, 8, 9, 10, 11, 12, 13, 14, 15, 16, 17, 18, 19, 20, 21, 22, 23, 24, 25, 26, 27, 28, 29, 30

## SFV30R-2STE1HLF
designator J?
30-pin FFC header (contacts on top); Supplier 1: Digi-Key; Supplier Part Number 1: 609-4327-1-ND; Supplier 2: Arrow; Supplier Part Number 2: dHrXoBAXAwCHndpnvW3zAaGmAXLrHLXcQdaP6RduFuM
footprint SFV30R-2STE1HLF
pins: 1, 2, 3, 4, 5, 6, 7, 8, 9, 10, 11, 12, 13, 14, 15, 16, 17, 18, 19, 20, 21, 22, 23, 24, 25, 26, 27, 28, 29, 30

## SJ-43514-SMT-TR
designator J?
3.50mm (0.141", 1/8", Mini Plug) - Headphone Phone Jack Stereo (4 Conductor, TRRS) Connector Solder; Supplier 1: Digi-Key; Supplier 2: Mouser; Supplier Part Number 2: 490-SJ-43514-SMT-TR; Supplier Part Number 1: CP-43514SJCT-ND
footprint SJ-43514-SMT-TR (3.50mm (0.141", 1/8", Mini Plug) - Headphone Phone Jack Stereo (4 Conductor, TRRS) Connector Solder)
pins: 1, 2, 3, 4

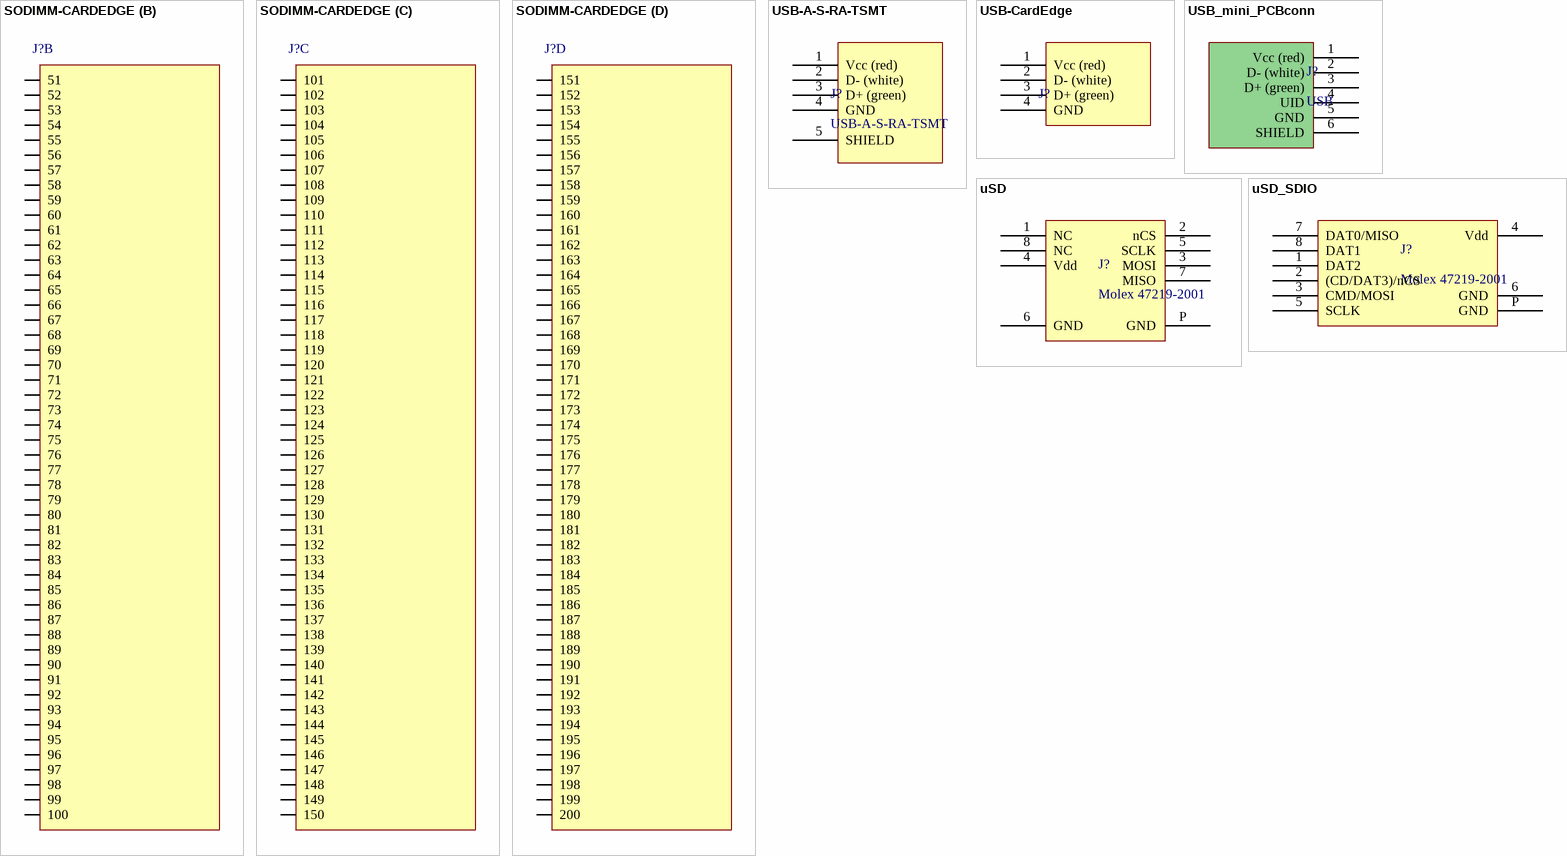
[diagram p3: symbols SODIMM-CARDEDGE to uSD_SDIO]

## SODIMM-CARDEDGE
designator J?, comment SODIMM PCB EDGE  (value not drawn)  (no BOM)
SODIMM DDR2 200-pin standard, card edge header
footprint SODIMM-GF-2D-600-1K-S200 (Golden finger, SODIMM, Dual, Staggered, Pitch 0.6mm, 200-Position)
part A pins: 1, 2, 3, 4, 5, 6, 7, 8, 9, 10, 11, 12, 13, 14, 15, 16, 17, 18, 19, 20, 21, 22, 23, 24, 25, 26, 27, 28, 29, 30, 31, 32, 33, 34, 35, 36, 37, 38, 39, 40, 41, 42, 43, 44, 45, 46, 47, 48, 49, 50
part B pins: 51, 52, 53, 54, 55, 56, 57, 58, 59, 60, 61, 62, 63, 64, 65, 66, 67, 68, 69, 70, 71, 72, 73, 74, 75, 76, 77, 78, 79, 80, 81, 82, 83, 84, 85, 86, 87, 88, 89, 90, 91, 92, 93, 94, 95, 96, 97, 98, 99, 100
part C pins: 101, 102, 103, 104, 105, 106, 107, 108, 109, 110, 111, 112, 113, 114, 115, 116, 117, 118, 119, 120, 121, 122, 123, 124, 125, 126, 127, 128, 129, 130, 131, 132, 133, 134, 135, 136, 137, 138, 139, 140, 141, 142, 143, 144, 145, 146, 147, 148, 149, 150
part D pins: 151, 152, 153, 154, 155, 156, 157, 158, 159, 160, 161, 162, 163, 164, 165, 166, 167, 168, 169, 170, 171, 172, 173, 174, 175, 176, 177, 178, 179, 180, 181, 182, 183, 184, 185, 186, 187, 188, 189, 190, 191, 192, 193, 194, 195, 196, 197, 198, 199, 200

## USB-A-S-RA-TSMT
designator J?
USB - A USB 2.0 Receptacle Connector 4 Position Surface Mount, Right Angle; Supplier 1: Digi-Key; Supplier 2: Future Electronics; Supplier 3: Mouser; Supplier Part Number 1: 2057-USB-A-S-RA-TSMT-ND; Supplier Part Number 2: USB-A-S-RA-TSMT-TRAY; Supplier Part Number 3: 490-UJ2-AH-1-SMT-TR
footprint USB-A-S-RA-TSMT (USB A 2.0, R/A, TRUE SMT, RECEPT)
pins: 1 Vcc (red), 2 D- (white), 3 D+ (green), 4 GND, 5 SHIELD

## USB-CardEdge
designator J?
PCB-based male USB-A type connector. Needs 2mm PCB!
footprint USB-CardEdge (USB A-type male connector, 2mm PCB thickness.)
pins: 1 Vcc (red), 2 D- (white), 3 D+ (green), 4 GND

## USB_mini_PCBconn
designator J?, comment USB
Mini USB; Supplier 1: Digi-Key; Supplier Part Number 1: 609-4700-1-ND; Supplier 2: Arrow; Supplier Part Number 2: fKwvaeNBr1z5VMxJn6nsRueEMTy3zYSkgWS39oA3xe4
footprint MiniUSB B - 10033526-N3212LF
pins: 1 Vcc (red), 2 D- (white), 3 D+ (green), 4 UID, 5 GND, 6 SHIELD

## uSD
designator J?, comment Molex 47219-2001
Hinge-type uSD card holder; Supplier 1: Mouser; Supplier Part Number 1: 538-47219-2001; Supplier 2: Digi-Key; Supplier Part Number 2: WM6698CT-ND; Supplier 3: Mouser; Supplier Part Number 3: 523-101-00303-68; Supplier 4: Digi-Key; Supplier Part Number 4: 101-00303-68-1-ND; Supplier 5: Arrow; Supplier Part Number 5: 21w-7ytzUT1HKeOSWeYQZz2dxBtJt5wy_qBfmRXnDj4
footprint Molex 47219-2001 (Hinge-style MicroSD card holder)
pins: 1 NC, 2 nCS, 3 MOSI, 4 Vdd (power), 5 SCLK, 6 GND, 7 MISO, 8 NC, P GND

## uSD_SDIO
designator J?, comment Molex 47219-2001
Hinge-type uSD card holder, SDIO pinout; Supplier 1: Mouser; Supplier Part Number 1: 538-47219-2001; Supplier 2: Digi-Key; Supplier Part Number 2: WM6698CT-ND; Supplier 3: Mouser; Supplier Part Number 3: 523-101-00303-68; Supplier 4: Digi-Key; Supplier Part Number 4: 101-00303-68-1-ND; Supplier 5: Arrow; Supplier Part Number 5: 21w-7ytzUT1HKeOSWeYQZz2dxBtJt5wy_qBfmRXnDj4
footprint Molex 47219-2001 (Hinge-style MicroSD card holder)
pins: 1 DAT2, 2 (CD/DAT3)/nCS, 3 CMD/MOSI, 4 Vdd, 5 SCLK, 6 GND, 7 DAT0/MISO, 8 DAT1, P GND